# Altium schematic symbol library PFET.SchLib: 5 symbols
Pins are listed as number, name and electrical type; pins without a type are passive.

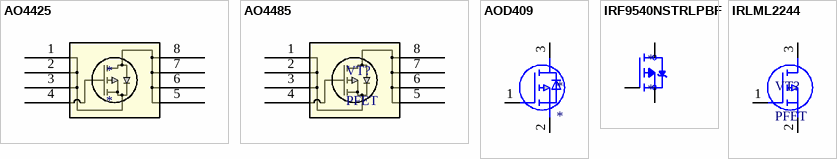
[diagram p0: symbols AO4425 to IRLML2244]

## AO4425
designator *
footprint SOIC127P600x175-8N
pins: 1, 2, 3, 4, 5, 6, 7, 8

## AO4485
designator VT?, comment PFET
footprint SOIC127P600x175-8N
pins: 1, 2, 3, 4, 5, 6, 7, 8

## AOD409
designator *
footprint AOD409 case TO252 (D-Pak)
pins: 1 G, 2 S, 3 D

## IRF9540NSTRLPBF
designator *
footprint IRF9540NSTRLPBF
pins: 1 G, 3 S, 4 D

## IRLML2244
designator VT?, comment PFET
footprint SOT95P237x112-3N
pins: 1 G, 2 S, 3 D